# Altium footprint library JWB-001_Main.PcbLib: 34 footprints (part 2 of 3)
Each footprint in its own frame and in the unit in brackets; x right, y up, seen from the top. Pads: shape width x height; smd on the part's side, far side on the other; paste and mask are expansions set on the pad; w line width, h text height; cw(c..) or ccw(c..) is an arc to the next point about the centre after c.
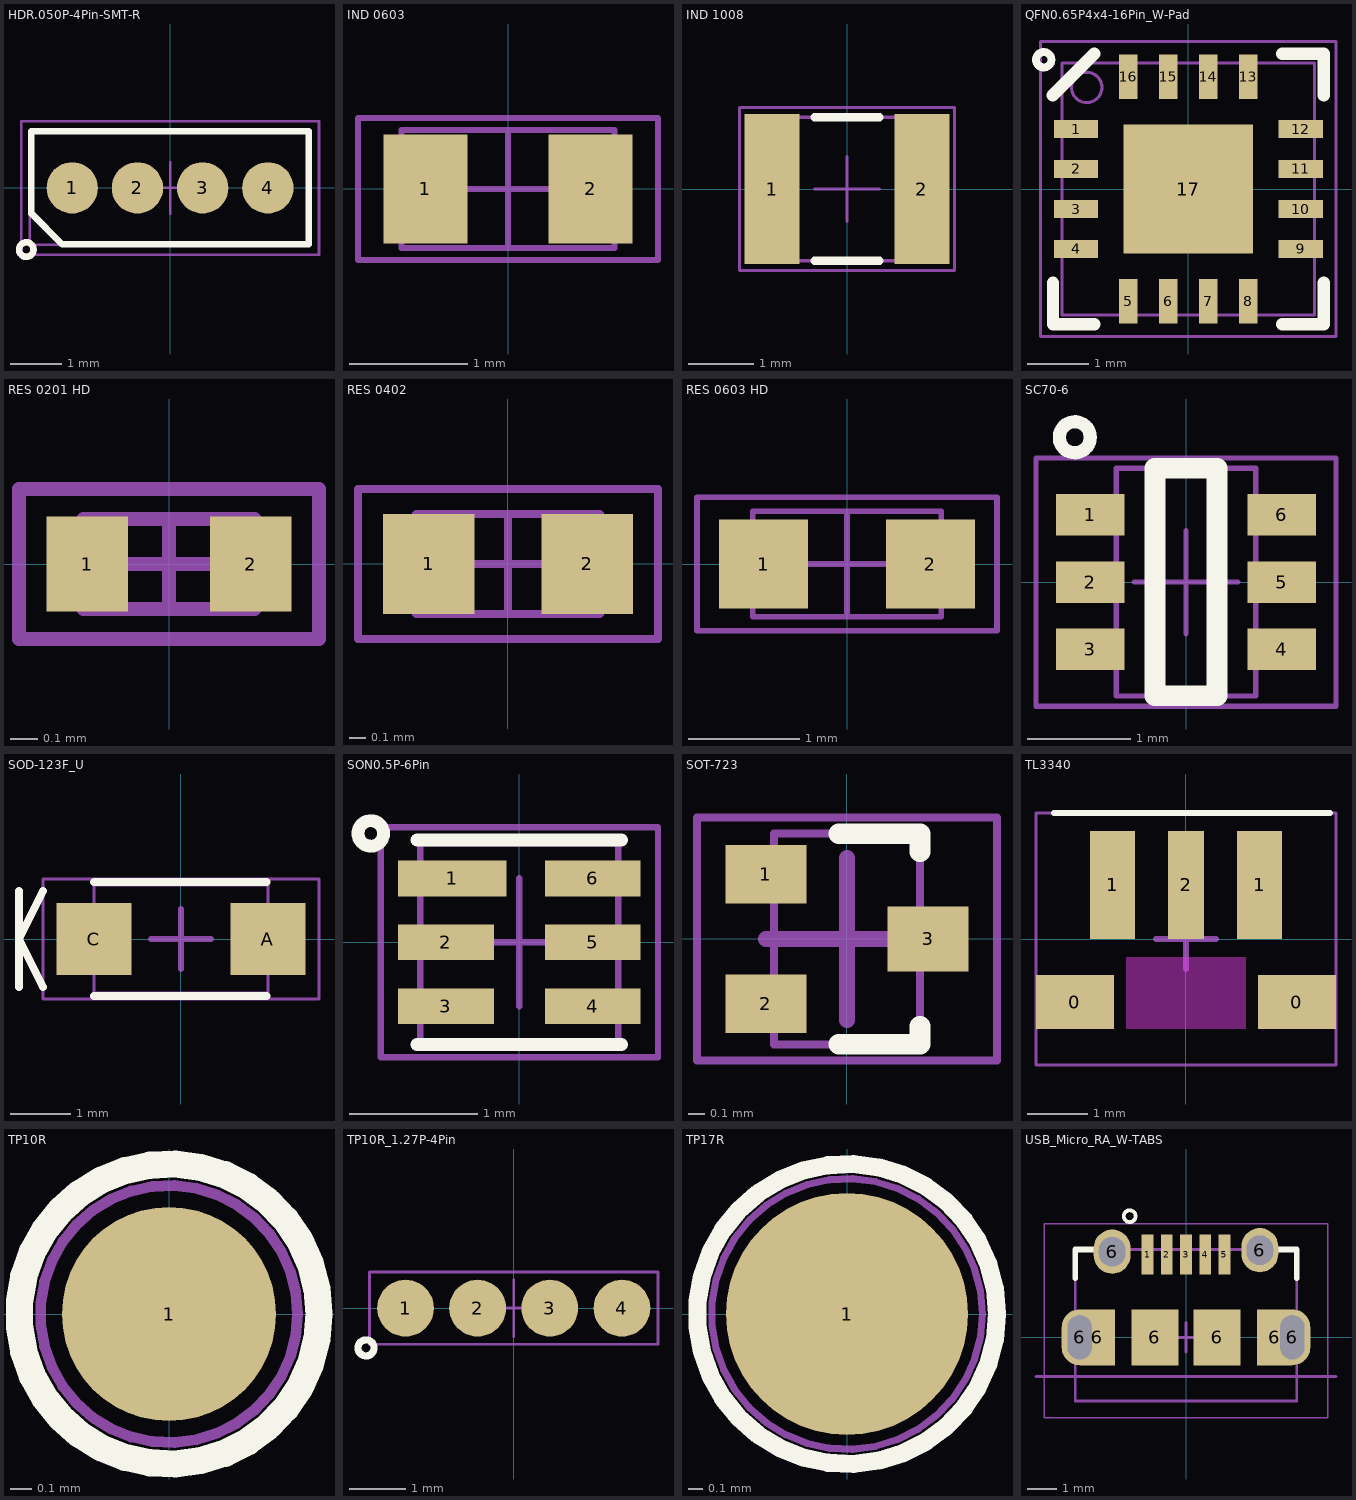
[diagram p1: the footprints below, top view; thin cyan lines are the x and y axes]

## HDR.050P-4Pin-SMT-R [mm] "Header 0.050\" Pitch, 4Pin 1 row, SMT with 1mm Round pads"
height 6.4
pads (4):
  round 1 smd mask+0.08: 1(-1.905,0) 2(-0.635,0) 3(0.635,0) 4(1.905,0)
Top Overlay:
  circle w0.127: c-2.8,-1.2 r0.141
  lines w0.127: -2.7,-0.5 -2.1,-1.1 2.7,-1.1 2.7,1.1 -2.7,1.1 -2.7,-0.5
Mechanical 11:
  text ".Designator" at -1.854,-0.494 h1
Mechanical 13:
  lines w0.05: -2.735,-1.11 -2.735,1.11 2.735,1.11 2.735,-1.11 -2.735,-1.11
Mechanical 15:
  lines w0.05: -0.5,0 0.5,0 ; 0,-0.5 0,0.5 ; -2.9,-1.3 -2.9,1.3 2.9,1.3 2.9,-1.3 -2.9,-1.3
3D body: height 4.98, standoff 0.58, extent -2.735,-1.11 2.735,1.11
3D body: height 6.4, standoff 0, extent 1.667,-0.239 2.145,0.24
3D body: height 6.4, standoff 0, extent 0.397,-0.239 0.875,0.24
3D body: height 6.4, standoff 0, extent -0.873,-0.239 -0.395,0.24
3D body: height 6.4, standoff 0, extent -2.143,-0.239 -1.665,0.24

## IND 0603 [mm] "Chip Inductor 0603, 2-Leads, Body 1.60x0.80mm, IPC High Density"
height 1
pads (2):
  rect 0.71x0.92 smd: 1(-0.7,0) 2(0.7,0)
Mechanical 11:
  text ".Designator" at 0.91,0.269 h0.5
Mechanical 13:
  lines w0.05: -0.9,-0.5 0.9,-0.5 0.9,0.5 -0.9,0.5 -0.9,-0.5
Mechanical 15:
  lines w0.05: -0.5,0 0.5,0 ; 0,-0.5 0,0.5 ; -1.27,-0.6 1.27,-0.6 1.27,0.6 -1.27,0.6 -1.27,-0.6
3D body: height 1, standoff 0, extent 0.55,-0.5 0.9,0.5
3D body: height 1, standoff 0, extent -0.9,-0.5 -0.55,0.5
3D body: height 1, standoff 0, extent -0.55,-0.5 0.55,0.5

## IND 1008 [mm] "Inductor 1008, 2.7mm x 2.2mm"
height 1
pads (2):
  rect 0.85x2.3 smd: 1(-1.15,0) 2(1.15,0)
Top Overlay:
  lines w0.127: -0.5,-1.1 0.5,-1.1 ; -0.5,1.1 0.5,1.1
Mechanical 11:
  text ".Designator" at -1.5,-0.475 h1
Mechanical 13:
  lines w0.05: -1.35,-1.1 -1.35,1.1 1.35,1.1 1.35,-1.1 -1.35,-1.1
Mechanical 15:
  lines w0.05: -0.5,0 0.5,0 ; 0,-0.5 0,0.5 ; -1.65,-1.25 -1.65,1.25 1.65,1.25 1.65,-1.25 -1.65,-1.25
3D body: height 1, standoff 0, extent -0.8,-1.075 0.8,1.125
3D body: height 1, standoff 0, extent -1.35,-1.1 -0.8,1.1
3D body: height 1, standoff 0, extent 0.8,-1.1 1.35,1.1

## QFN0.65P4x4-16Pin_W-Pad [mm] "QFN, 16-Leads, Body 4x4mm, Pitch 0.65mm, Thermal Pad 2.1x2.1mm, IPC High Density"
height 0.8
pads (17):
  rect 0.72x0.3 smd: 1(-1.825,0.975) 2(-1.825,0.325) 3(-1.825,-0.325) 4(-1.825,-0.975) 9(1.825,-0.975) 10(1.825,-0.325) 11(1.825,0.325) 12(1.825,0.975)
  rect 0.3x0.72 smd: 5(-0.975,-1.825) 6(-0.325,-1.825) 7(0.325,-1.825) 8(0.975,-1.825) 13(0.975,1.825) 14(0.325,1.825) 15(-0.325,1.825) 16(-0.975,1.825)
  rect 2.1x2.1 smd paste-1.05: 17(0,0)
Top Overlay:
  circle w0.127: c-2.35,2.1 r0.125
  lines w0.2: -2.2,-1.525 -2.2,-2.2 -1.525,-2.2 ; 1.525,-2.2 2.2,-2.2 2.2,-1.525 ; 1.525,2.2 2.2,2.2 2.2,1.525
  lines w0.203: -2.2,1.525 -1.525,2.2
Top Paste:
  rectangle: -0.95,-0.95 0.95,0.95
Mechanical 11:
  text ".Designator" at 1.219,0.381 h0.8
Mechanical 13:
  circle w0.051: c-1.651,1.651 r0.247
  lines w0.051: -2.05,-2.05 -2.05,2.05 2.05,2.05 2.05,-2.05 -2.05,-2.05
Mechanical 15:
  lines w0.05: -0.5,0 0.5,0 ; 0,-0.5 0,0.5 ; -2.4,-2.4 -2.4,2.4 2.4,2.4 2.4,-2.4 -2.4,-2.4
3D body: height 0.8, standoff 0, extent -2.05,-2.05 2.05,2.05

## RES 0201 HD [mm] "Resistor, 0201 High Density"
height 0.26
pads (2):
  rect 0.3x0.35 smd mask+0.05: 1(-0.3,0) 2(0.3,0)
Mechanical 11:
  text ".Designator" at -0.584,-0.152 h0.3
Mechanical 13:
  lines w0.05: -0.315,-0.165 0.315,-0.165 0.315,0.165 -0.315,0.165 -0.315,-0.165
Mechanical 15:
  lines w0.05: -0.165,0 0.165,0 ; 0,-0.165 0,0.165 ; -0.55,-0.275 -0.55,0.275 0.55,0.275 0.55,-0.275 -0.55,-0.275
3D body: height 0.26, standoff 0, extent -0.165,-0.165 0.165,0.165
3D body: height 0.26, standoff 0, extent -0.315,-0.165 -0.165,0.165
3D body: height 0.26, standoff 0, extent 0.165,-0.165 0.315,0.165

## RES 0402 [mm] "Chip Resistor, 2-Leads, Body 1.05x0.54mm, IPC Medium Density"
height 0.4
pads (2):
  rect 0.55x0.6 smd: 1(-0.475,0) 2(0.475,0)
Mechanical 11:
  text ".Designator" at -0.864,-0.229 h0.5
Mechanical 13:
  lines w0.05: -0.55,-0.3 -0.55,0.3 0.55,0.3 0.55,-0.3 -0.55,-0.3
Mechanical 15:
  lines w0.05: -0.3,0 0.3,0 ; 0,-0.3 0,0.3 ; -0.9,-0.45 -0.9,0.45 0.9,0.45 0.9,-0.45 -0.9,-0.45
3D body: height 0.4, standoff 0, extent -0.35,-0.3 0.35,0.3
3D body: height 0.4, standoff 0, extent -0.55,-0.3 -0.35,0.3
3D body: height 0.4, standoff 0, extent 0.35,-0.3 0.55,0.3

## RES 0603 HD [mm] "Chip Resistor, 2-Leads, Body 1.60x0.82mm, IPC High Density"
height 0.6
pads (2):
  rect 0.8x0.8 smd: 1(-0.75,0) 2(0.75,0)
Mechanical 11:
  text ".Designator" at 1.118,0.356 h0.7
Mechanical 13:
  lines w0.05: -0.85,-0.475 -0.85,0.475 0.85,0.475 0.85,-0.475 -0.85,-0.475
Mechanical 15:
  lines w0.05: -0.475,0 0.475,0 ; 0,-0.475 0,0.475 ; -1.35,-0.6 -1.35,0.6 1.35,0.6 1.35,-0.6 -1.35,-0.6
3D body: height 0.55, standoff 0, extent -0.57,-0.475 0.57,0.475
3D body: height 0.55, standoff 0, extent -0.85,-0.475 -0.57,0.475
3D body: height 0.55, standoff 0, extent 0.57,-0.475 0.85,0.475

## SC70-6 [mm] "SC70-6, 6-Pin, Body 2.00x2.10mm, Pitch 0.65mm, IPC High Density"
height 1.1
pads (6):
  rect 0.66x0.4 smd: 1(-0.925,0.65) 2(-0.925,0) 3(-0.925,-0.65) 4(0.925,-0.65) 5(0.925,0) 6(0.925,0.65)
Top Overlay:
  circle w0.127: c-1.075,1.4 r0.15
  lines w0.2: -0.3,-1.1 0.3,-1.1 0.3,1.1 -0.3,1.1 -0.3,-1.1
Mechanical 11:
  text ".Designator" at -0.325,1.2 h0.8
Mechanical 13:
  lines w0.05: -0.675,-1.1 -0.675,1.1 0.675,1.1 0.675,-1.1 -0.675,-1.1
Mechanical 15:
  lines w0.05: -0.5,0 0.5,0 ; 0,-0.5 0,0.5 ; -1.45,-1.2 -1.45,1.2 1.45,1.2 1.45,-1.2 -1.45,-1.2
3D body: height 1.1, standoff 0.1, extent -0.675,-1.1 0.675,1.1

## SOD-123F_U [mm] "SOD-123F, Unidirectional, 2-Leads, Body 1.65x3.60mm, IPC High Density"
height 0.98
pads (2):
  rect 1.25x1.2 smd: A(1.45,0) C(-1.45,0)
Top Overlay:
  lines w0.127: -2.7,-0.8 -2.7,0.8 ; -2.3,-0.8 -2.7,0 -2.3,0.8 ; -1.45,-0.95 1.425,-0.95 ; -1.45,0.95 1.425,0.95
Mechanical 11:
  text ".Designator" at -1.5,-0.475 h1
Mechanical 13:
  lines w0.05: -1.45,-0.9 -1.45,0.9 1.45,0.9 1.45,-0.9 -1.45,-0.9
Mechanical 15:
  lines w0.05: -2.3,-1 -2.3,1 2.3,1 2.3,-1 -2.3,-1
  lines w0.1: -0.5,0 0.5,0 ; 0,-0.5 0,0.5
3D body: height 0.98, standoff 0, extent -0.9,-0.9 1.45,0.9
3D body: height 0.98, standoff 0, extent -1.45,-0.9 -0.9,0.9

## SON0.5P-6Pin [mm] "Small Outline No-Lead Package, 0.5pitch, 6 pin, no thermal pad, 1.5mm x 1.5mm"
height 0.8
pads (6):
  rect 0.85x0.28 smd mask+0.05: 1(-0.525,0.5)
  rect 0.75x0.28 smd mask+0.05: 2(-0.575,0) 3(-0.575,-0.5) 4(0.575,-0.5) 5(0.575,0) 6(0.575,0.5)
Top Overlay:
  circle w0.1: c-1.162,0.852 r0.1
  lines w0.1: -0.8,-0.8 0.8,-0.8 ; -0.8,0.8 0.8,0.8
Mechanical 11:
  text ".Designator" at -0.914,-0.254 h0.5
Mechanical 13:
  lines w0.05: -0.775,-0.775 -0.775,0.775 0.775,0.775 0.775,-0.775 -0.775,-0.775
Mechanical 15:
  lines w0.05: -0.5,0 0.5,0 ; 0,-0.5 0,0.5 ; -1.085,-0.9 -1.085,0.9 1.085,0.9 1.085,-0.9 -1.085,-0.9
3D body: height 0.8, standoff 0, extent -0.775,-0.775 0.775,0.775

## SOT-723 [mm] "SOT-723, 3-Leads, 1.20mm x 1.20mm, Pitch 0.40mm, IPC High Density"
height 0.55
pads (3):
  rect 0.5x0.36 smd: 1(-0.5,0.4) 2(-0.5,-0.4)
  rect 0.5x0.4 smd: 3(0.5,0)
Top Overlay:
  lines w0.127: -0.05,-0.65 0.45,-0.65 0.45,-0.539 ; -0.05,0.65 0.45,0.65 0.45,0.539
Mechanical 11:
  text ".Designator" at 0.229,-0.584 h0.5
Mechanical 13:
  lines w0.05: -0.45,-0.65 0.45,-0.65 0.45,0.65 -0.45,0.65 -0.45,-0.65
Mechanical 15:
  lines w0.05: -0.925,-0.75 0.925,-0.75 0.925,0.75 -0.925,0.75 -0.925,-0.75
  lines w0.1: -0.5,0 0.5,0 ; 0,-0.5 0,0.5
3D body: height 0.55, standoff 0, extent -0.45,-0.65 0.45,0.65

## TL3340 [mm]
pads (5):
  rect 1.3x0.9 smd: 0(-1.85,-1.05) 0(1.85,-1.05)
  rect 0.75x1.8 smd: 1(-1.225,0.9) 1(1.225,0.9)
  rect 0.6x1.8 smd: 2(0,0.9)
Top Overlay:
  lines w0.1: -2.2,2.1 2.4,2.1
Keep-Out Layer:
  rectangle: -1,-1.5 1,-0.3
Mechanical 11:
  lines w0.05: -2.5,-2.1 2.5,-2.1 2.5,2.1 -2.5,2.1 -2.5,-2.1
  text ".Designator" at -0.971,-0.284 h0.5
Mechanical 15:
  lines w0.1: -0.5,0 0.5,0 ; 0,-0.5 0,0.5
3D body "TL3340AF160QG.stp": height 3.25, standoff -0.5, extent -2.25,-2.1 2.25,1.565

## TP10R [mm] "Testpoint, Round 1.0mm Dia"
pads (1):
  round 1 smd paste-0.5: 1(0,0)
Top Overlay:
  circle w0.127: c0,0 r0.7
Mechanical 11:
  text ".Designator" at -0.178,1.346 h0.5
Mechanical 13:
  circle w0.05: c0,0 r0.6
3D body: height 0.05, standoff 0, extent -0.496,-0.499 0.5,0.499

## TP10R_1.27P-4Pin [mm] "Test Points, 1.0mm Diameter, 1.27mm(0.050\") pitch, 4 Pins"
pads (4):
  round 1 smd paste-2 mask+0.08: 1(-1.905,0) 2(-0.635,0) 3(0.635,0) 4(1.905,0)
Top Overlay:
  circle w0.127: c-2.6,-0.7 r0.141
Mechanical 11:
  text ".Designator" at 1.821,0.481 h1
Mechanical 15:
  lines w0.05: -0.5,0 0.5,0 ; 0,-0.5 0,0.5 ; -2.54,-0.635 2.54,-0.635 2.54,0.635 -2.54,0.635 -2.54,-0.635
3D body: height 0.1, standoff 0, extent -1.131,-0.499 -0.135,0.499
3D body: height 0.1, standoff 0, extent 0.139,-0.499 1.135,0.499
3D body: height 0.1, standoff 0, extent 1.409,-0.499 2.405,0.499
3D body: height 0.1, standoff 0, extent -2.401,-0.499 -1.405,0.499

## TP17R [mm] "Testpoint, Round 1.7mm Dia"
pads (1):
  round 1.7 smd paste-1: 1(0,0)
Top Overlay:
  circle w0.127: c0,0 r1.053
Mechanical 11:
  text ".Designator" at -0.229,1.88 h0.5
Mechanical 13:
  circle w0.05: c0,0 r0.95
3D body: height 0.05, standoff 0, extent -0.843,-0.848 0.85,0.849

## USB_Micro_RA_W-TABS [mm] "USB Micro-AB Connector, 5-Leads, Pitch 0.65mm, 8mm x 5mm"
height 2.8
pads (13):
  rect 0.4x1.35 smd: 1(-1.3,2.8) 2(-0.65,2.8) 3(0,2.8) 4(0.65,2.8) 5(1.3,2.8)
  oval 1.225x1.9 hole 0.825 slot 1.5 at 90 deg: 6(-3.6,0) 6(3.6,0.001)
  rect 1.2x1.9 smd: 6(-3,0) 6(3,0)
  oval 1.25x1.5 hole 0.9 slot 1 at 90 deg: 6(-2.5,2.9) 6(2.5,2.95)
  rect 1.6x1.9 smd: 6(-1.05,0) 6(1.05,0)
Top Overlay:
  circle w0.127: c-1.905,4.103 r0.2
  lines w0.2: -3.75,2 -3.75,2.975 -3.149,2.976 ; 3.149,2.975 3.75,2.975 3.75,2
Mechanical 11:
  text ".Designator" at 2.286,0.737 h1.5
Mechanical 13:
  lines w0.1: -3.75,-2.15 -3.75,2.976 3.75,2.976 3.75,-2.15 -3.75,-2.15
Mechanical 15:
  lines w0.05: -4.8,3.851 4.8,3.851 4.8,-2.723 -4.8,-2.723 -4.8,3.851
  lines w0.1: -5.08,-1.325 5.08,-1.325 ; -0.5,0 0.5,0 ; 0,-0.5 0,0.5
3D body: height 2.83, standoff 2.25, extent -3.05,-2.623 3.05,-2.023
3D body: height 0.25, standoff -0.32, extent -3.05,-2.623 3.05,-2.023
3D body: height 1.79, standoff 0.71, extent 3.5,-2.625 4,-2.023
3D body: height 1.79, standoff 0.71, extent -4,-2.625 -3.5,-2.023
3D body: height 0.25, standoff 0, extent -3.25,1.775 3.25,2.105
3D body: height 2.5, standoff -0.01, extent -3.754,1.776 3.757,2.976
3D body: height 0.55, standoff -0.6, extent 3.03,-0.425 3.8,0.425
3D body: height 0.55, standoff -0.6, extent -3.8,-0.425 -3.03,0.425
3D body: height 2.51, standoff -0.01, extent -3.756,-2.024 3.757,1.776
3D body: height 0.25, standoff 0, extent -0.15,2.104 0.157,3.247
3D body: height 0.25, standoff 0, extent 0.5,2.104 0.807,3.247
3D body: height 0.25, standoff 0, extent 1.15,2.104 1.457,3.247
3D body: height 0.25, standoff 0, extent -1.45,2.104 -1.143,3.248
3D body: height 0.25, standoff 0, extent -0.8,2.104 -0.493,3.247
3D body: height 2.25, standoff -0.85, extent -2.379,2.826 2.387,3.426
3D body: height 2.5, standoff 2.25, extent -0.967,2.825 0.972,3.425